# Altium footprint library CRHT_Passives_PCB.PcbLib: 28 footprints (part 2 of 2)
Each footprint in its own frame and in the unit in brackets; x right, y up, seen from the top. Pads: shape width x height; smd on the part's side, far side on the other; paste and mask are expansions set on the pad; w line width, h text height; cw(c..) or ccw(c..) is an arc to the next point about the centre after c.
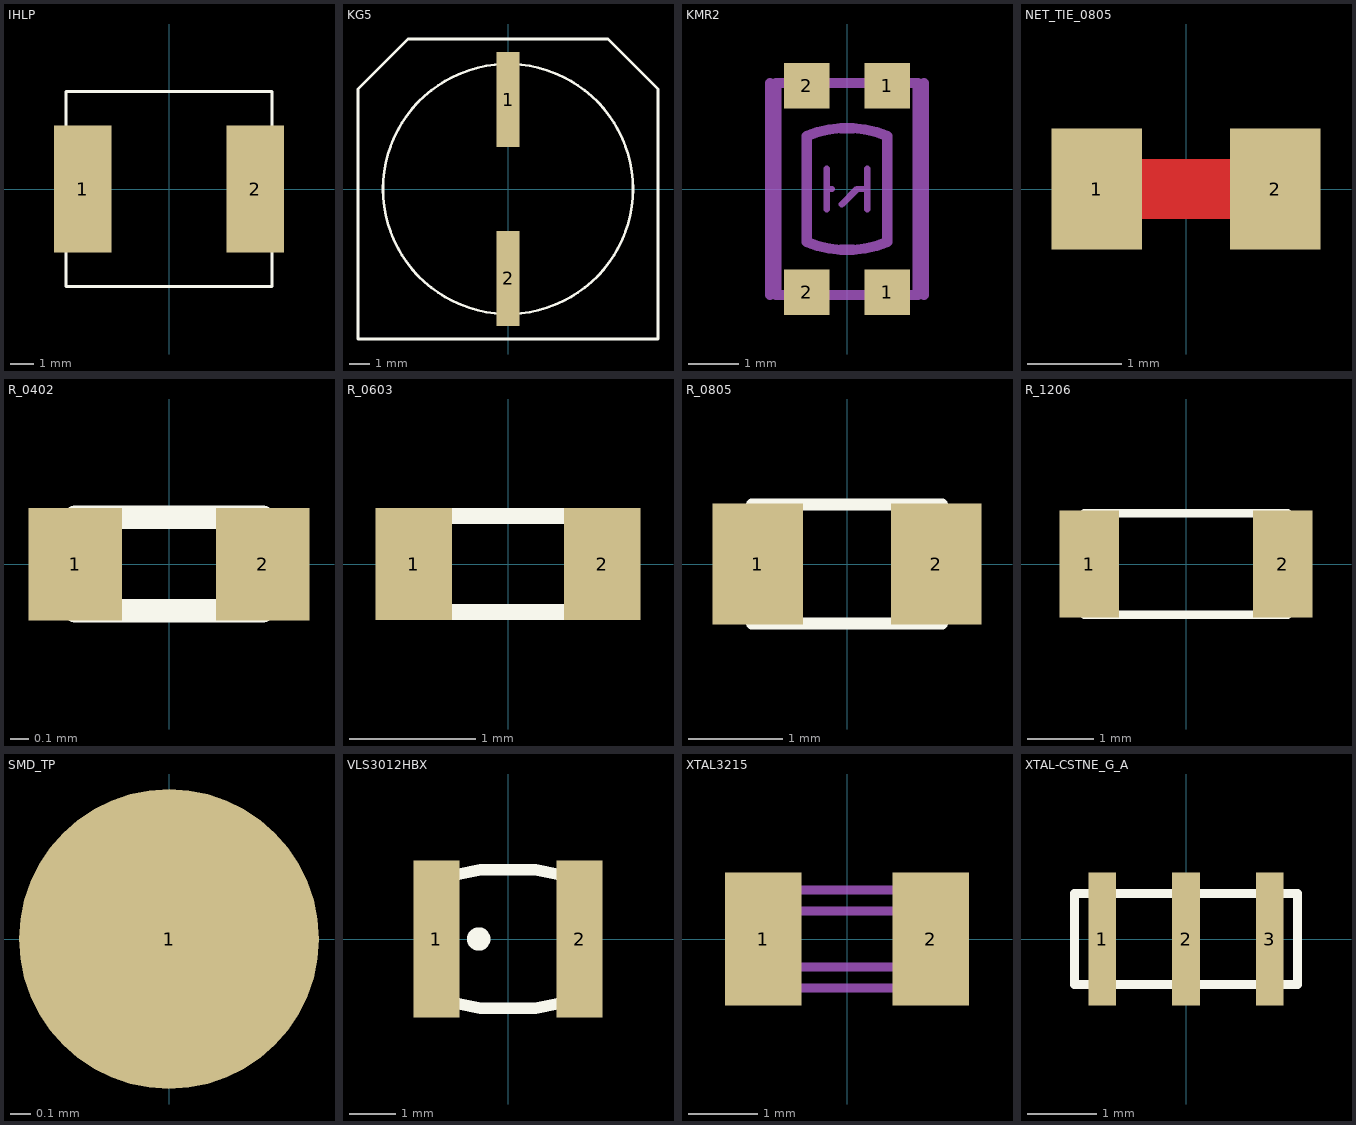
[diagram p1: the footprints below, top view; thin cyan lines are the x and y axes]

## IHLP [mil]
height 158
pads (2):
  rect 95x210 smd: 1(-142.5,0) 2(142.5,0)
Top Overlay:
  lines w5: -170,-161 -170,161 170,161 170,-161 -170,-161

## KG5 [mm]
height 16
pads (2):
  rect 1.15x4.75 smd: 1(0,4.475) 2(0,-4.475)
Top Overlay:
  circle w0.127: c0,0 r6.25
  lines w0.127: -7.5,-7.5 7.5,-7.5 7.5,3.81 7.5,5 5,7.5 -5,7.5 -7.5,5 -7.5,4.039 -7.5,3.803 -7.5,-7.5
3D body: height 16, standoff 0, extent -6.25,-6.247 6.25,6.247

## KMR2 [mil]
height 74.8
pads (4):
  rect 35.43x35.43 smd: 1(31.5,-80.71) 1(31.5,80.71) 2(-31.5,-80.71) 2(-31.5,80.71)
Mechanical 3:
  lines w5: -15.75,-15.75 -15.75,0 ; -15.75,15.75 -15.75,0 ; -11.81,0 -15.75,0 ; -3.94,-11.81 7.87,0 15.75,0 ; 15.75,-15.75 15.75,0 ; 15.75,15.75 15.75,0
  lines w8: -55.12,-82.68 -55.12,82.68 55.12,82.68 55.12,-82.68 -55.12,-82.68 ; -31.5,-41.34 ccw(c0,34.71) 31.5,-41.34 31.5,41.34 ccw(c0,-34.71) -31.5,41.34 -31.5,-41.34
Mechanical 7:
  lines w8: -60.06,-82.68 -60.06,82.68 ; 60.06,-82.68 60.06,82.68
3D body: height 74.8, standoff 0, extent -55,-83 55,86

## NET_TIE_0805 [mil]
pads (2):
  rect 38x51 smd: 1(-37.5,0) 2(37.5,0)
Top Layer:
  lines w25: -37.5,0 37.5,0

## R_0402 [mil]
pads (2):
  rect 20x24 smd: 1(-20,0) 2(20,0)
Top Overlay:
  lines w5: -20,-10 20,-10 20,10 -20,10 -20,-10
3D body "0402_R.STEP": height 14.13, standoff 0, extent -19.68,-10 19.68,9.76

## R_0603 [mil]
pads (2):
  rect 24x35 smd: 1(-29.5,0) 2(29.5,0)
Top Overlay:
  lines w5: -30,-15 -30,15 30,15 30,-15 -30,-15
3D body "0603_RES.stp": height 16.93, standoff -1.18, extent -31.5,-15.49 31.5,16

## R_0805 [mil]
pads (2):
  rect 38x51 smd: 1(-37.5,0) 2(37.5,0)
Top Overlay:
  lines w5: -40,-25 -40,25 40,25 40,-25 -40,-25
3D body "0805_R.STEP": height 24.02, standoff 0, extent -38.37,-24.21 40.37,25

## R_1206 [mil]
pads (2):
  rect 35x63 smd: 1(-57,0) 2(57,0)
Top Overlay:
  lines w5: -60,-30 -60,30 60,30 60,-30 -60,-30
3D body "1206_R.STEP": height 22.83, standoff -1.18, extent -61.99,-31.99 63.99,31

## SMD_TP [mil]
pads (1):
  round 59.06 smd mask+2: 1(0,0)

## VLS3012HBX [mm]
pads (2):
  rect 1x3.4 smd: 1(-1.55,0) 2(1.55,0)
Top Overlay:
  circle w0.254: c-0.635,0 r0.127
  lines w0.254: -1.5,-1.315 -0.595,-1.5 0.595,-1.5 1.5,-1.315 1.5,1.315 0.595,1.5 -0.595,1.5 -1.5,1.315 -1.5,-1.315
3D body "VLS3012.STEP": height 1.5, standoff 0, extent -1.5,-1.5 1.5,1.5

## XTAL3215 [mil]
pads (2):
  rect 43.31x74.8 smd: 1(-47.24,0) 2(47.24,0)
Mechanical 7:
  lines w5: -62.99,-16.43 ccw(c-51.86,-16.43) -51.86,-27.56 51.86,-27.56 ccw(c51.86,-16.43) 62.99,-16.43 62.99,15.11 ccw(c50.54,15.11) 50.54,27.56 -54.19,27.56 ccw(c-54.19,18.76) -62.99,18.76 -62.99,-16.43 ; -51.18,-7.87 ccw(c-41.34,-5.91) -39.37,-15.75 39.37,-15.75 ccw(c39.37,-3.94) 51.18,-3.94 51.18,3.94 ccw(c39.37,3.94) 39.37,15.75 -43.31,15.75 ccw(c-41.34,5.91) -51.18,3.94 -51.18,-7.87
3D body: height 50, standoff 0, extent 25.59,-37.4 68.89,37.4
3D body: height 50, standoff 0, extent -68.89,-37.4 -25.59,37.4

## XTAL-CSTNE_G_A [mm] "Piezoelectric Ceramic Resonator"
height 0.7
pads (3):
  rect 0.4x1.9 smd mask+0.05: 1(-1.2,0) 2(0,0) 3(1.2,0)
Top Overlay:
  lines w0.127: -1.6,-0.65 1.6,-0.65 1.6,0.65 -1.6,0.65 -1.6,-0.65
3D body: height 0.7, standoff 0, extent -1.626,-0.686 1.626,0.686